# Altium footprint library CUI_PJ-063BH.PcbLib: 1 footprints
Each footprint in its own frame and in the unit in brackets; x right, y up, seen from the top. Pads: shape width x height; smd on the part's side, far side on the other; paste and mask are expansions set on the pad; w line width, h text height; cw(c..) or ccw(c..) is an arc to the next point about the centre after c.
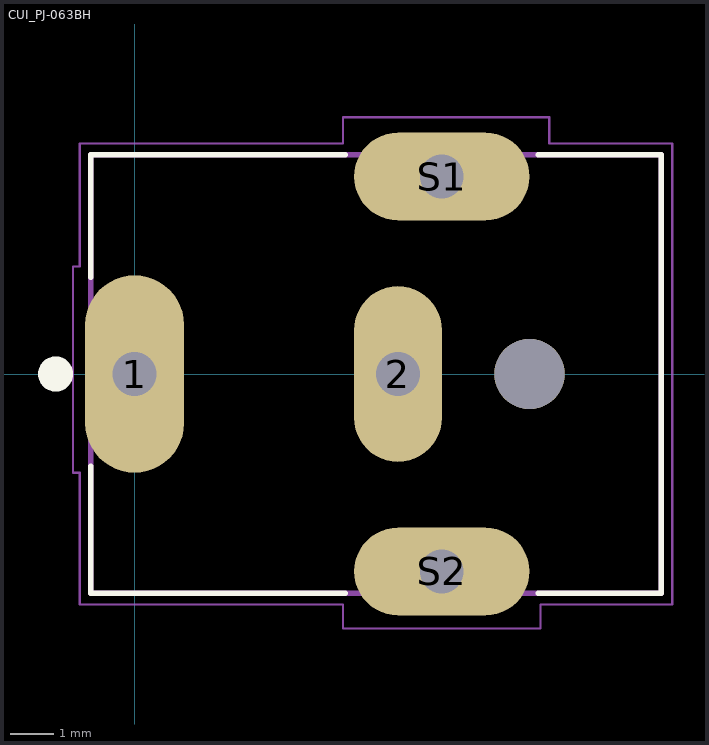
[diagram p0: the footprint, top view; thin cyan lines are the x and y axes]

## CUI_PJ-063BH [mm]
pads (5):
  oval 2.25x4.5 hole 1 square: 1(0,0)
  oval 2x4 hole 1 square: 2(6,0)
  oval 4x2 hole 1 square: S1(7,4.5) S2(7,-4.5)
  round 1.6 hole 1.6 unplated: ""(9,0)
Top Overlay:
  circle w0.4: c-1.8,0 r0.2
  lines w0.127: -1,-2.1 -1,-5 4.8,-5 ; -1,2.2 -1,5 4.8,5 ; 9.2,-5 12,-5 12,5 9.2,5
Mechanical 13:
  lines w0.127: -1,-5 -1,5 12,5 12,-5 -1,-5
Mechanical 15:
  lines w0.05: -1.4,-2.25 -1.4,2.45 -1.25,2.45 -1.25,5.25 4.75,5.25 4.75,5.85 9.45,5.85 9.45,5.25 12.25,5.25 12.25,-5.25 9.25,-5.25 9.25,-5.8 4.75,-5.8 4.75,-5.25 -1.25,-5.25 -1.25,-2.25 -1.4,-2.25
3D body "CUI_DEVICES_PJ-063BH.step": height 9.08, standoff -2.92, extent -1.001,-5.144 11.999,5.155